# Altium schematic symbol library Memory Schematics.SchLib: 2 symbols
Pins are listed as number, name and electrical type; pins without a type are passive.

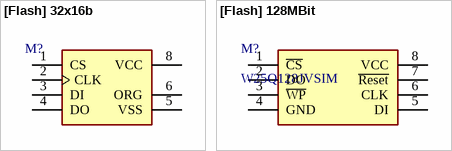
[diagram p0: symbols [Flash] 32x16b to [Flash] 128MBit]

## [Flash] 32x16b
designator M?  (value not drawn)
M93C46-WMN6TP; Supplier 1: DigiKey; Supplier Part Number 1: 497-5090-1-ND
footprint [Flash] 32x16b
pins: 1 CS, 2 CLK, 3 DI, 4 DO, 5 VSS, 6 ORG, 8 VCC

## [Flash] 128MBit
designator M?, comment W25Q128JVSIM
Supplier 1: DigiKey; Supplier Part Number 1: W25Q128JVSIM-ND
footprint [Flash] 128MBit (W25Q128JVSIM)
pins: 1 ~{CS}, 2 DO, 3 ~{WP}, 4 GND, 5 DI, 6 CLK, 7 ~{Reset}, 8 VCC